# Altium integrated library ohmite.IntLib: 3 symbols
Pins are listed as number, name and electrical type; pins without a type are passive.

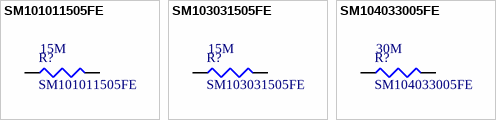
[diagram p0: symbols SM101011505FE to SM104033005FE]

## SM101011505FE
designator R?  value 15M
Radial, 15 MΩ, 0.5W, -55-110C, 1.5 kV, ±1%
footprint SLIM-MOX10103 (RES OHM)
pins: 1, 2

## SM103031505FE
designator R?  value 15M
Radial, 15 MΩ, 1.25W, -55-110C, 7.5 kV, ±1%
footprint SLIM-MOX10303 (RES OHM)
pins: 1, 2

## SM104033005FE
designator R?  value 30M
Radial, 30 MΩ, 1.5W, -55-110C, 10 kV, ±1%
footprint SLIM-MOX10403 (RES OHM 1.5W 1% RADIAL)
pins: 1, 2